# Altium footprint library STM32F103_BLUE_PILL.PcbLib: 1 footprints
Each footprint in its own frame and in the unit in brackets; x right, y up, seen from the top. Pads: shape width x height; smd on the part's side, far side on the other; paste and mask are expansions set on the pad; w line width, h text height; cw(c..) or ccw(c..) is an arc to the next point about the centre after c.
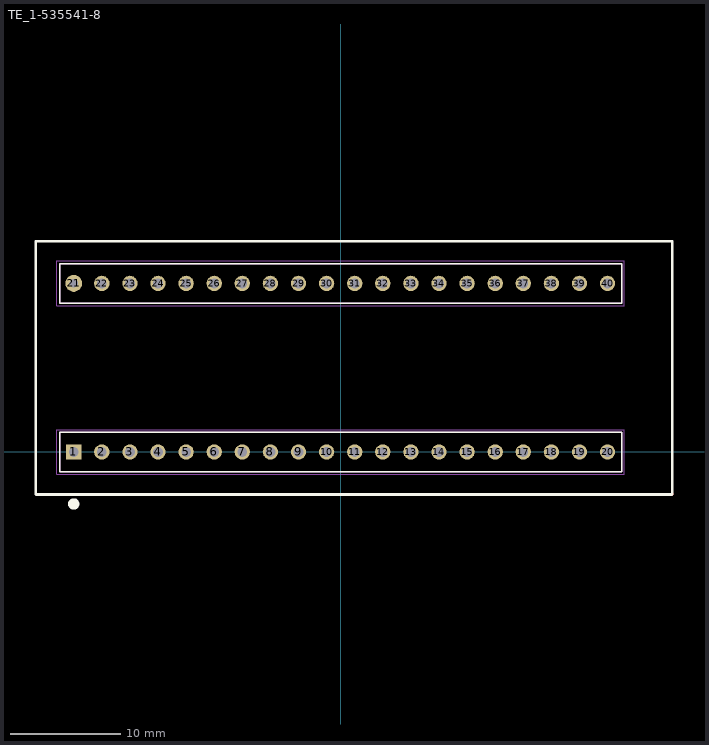
[diagram p0: the footprint, top view; thin cyan lines are the x and y axes]

## TE_1-535541-8 [mm]
pads (40):
  rect 1.388x1.388 hole 0.88: 1(-24.13,0)
  round 1.388 hole 0.88: 2(-21.59,0) 3(-19.05,0) 4(-16.51,0) 5(-13.97,0) 6(-11.43,0) 7(-8.89,0) 8(-6.35,0) 9(-3.81,0) 10(-1.27,0) 11(1.27,0) 12(3.81,0) 13(6.35,0) 14(8.89,0) 15(11.43,0) 16(13.97,0) 17(16.51,0) 18(19.05,0) 19(21.59,0) 20(24.13,0) 22(-21.59,15.24) 23(-19.05,15.24) 24(-16.51,15.24) 25(-13.97,15.24) 26(-11.43,15.24) 27(-8.89,15.24) 28(-6.35,15.24) 29(-3.81,15.24) 30(-1.27,15.24) 31(1.27,15.24) 32(3.81,15.24) 33(6.35,15.24) 34(8.89,15.24) 35(11.43,15.24) 36(13.97,15.24) 37(16.51,15.24) 38(19.05,15.24) 39(21.59,15.24) 40(24.13,15.24)
  round 1.524 hole 0.762: 21(-24.13,15.24)
Top Layer:
  lines w0.254: 29.949,-3.833 29.972,-3.81
Top Overlay:
  circle w0.508: c-24.13,-4.699 r0.254
  lines w0.127: -25.4,-1.78 25.4,-1.78 25.4,1.78 -25.4,1.78 -25.4,-1.78 ; -25.4,13.46 25.4,13.46 25.4,17.02 -25.4,17.02 -25.4,13.46
  lines w0.254: -27.559,-3.81 -27.559,19.05 29.972,19.05 29.972,-3.81 ; -27.536,-3.833 29.949,-3.833
Mechanical 13:
  lines w0.127: -25.4,-1.78 25.4,-1.78 25.4,1.78 -25.4,1.78 -25.4,-1.78 ; -25.4,13.46 25.4,13.46 25.4,17.02 -25.4,17.02 -25.4,13.46
Mechanical 15:
  lines w0.05: -25.65,-2.03 25.65,-2.03 25.65,2.03 -25.65,2.03 -25.65,-2.03 ; -25.65,13.21 25.65,13.21 25.65,17.27 -25.65,17.27 -25.65,13.21
3D body "STM32F103C8T6_Blue_Pill v6.step": height 19.17, standoff 0.9, extent -27.559,-3.81 30.001,19.05
3D body "1-535541-8--3DModel-STEP.STEP": height 6.86, standoff -3.05, extent -25.4,-1.778 25.4,1.778
3D body "1-535541-8--3DModel-STEP.STEP": height 6.86, standoff -3.05, extent -25.4,13.462 25.4,17.018